# Altium schematic symbol library 保护器件.SchLib: 9 symbols
Pins are listed as number, name and electrical type; pins without a type are passive.

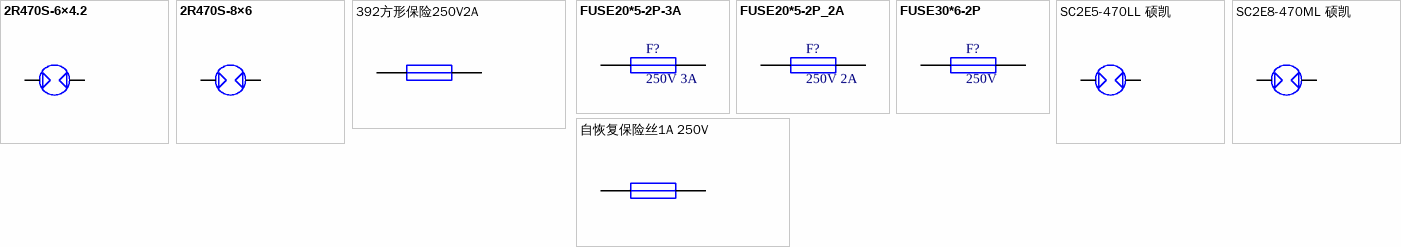
[diagram p0: symbols 2R470S-6×4.2 to 自恢复保险丝1A 250V]

## 2R470S-6×4.2
designator GDT?
气体放电管; 金蝶料号: 010104080007; 工作温度: -40℃~+90°C; 插件/贴片: 贴片; 器件状态: 启用; 厂家型号: 2R470S-6×4.2; 值: 2R470S-6×4.2; ComponentLink1Description: New link; ComponentLink1URL: *
footprint 2RXXXS-6*4.2mm (贴片气体放电管)
pins: 1, 2

## 2R470S-8×6
designator GDT?
气体放电管; 金蝶料号: 010104080008; 工作温度: -40℃~+90°C; 插件/贴片: 贴片; 器件状态: 启用; 厂家型号: 2R470S-8×6; 值: 2R470S-8×6; ComponentLink1Description: New link; ComponentLink1URL: *
footprint 2RXXXS-8×6
pins: 1, 2

## 392方形保险250V2A
designator F?, comment 250V 2A
392方形保险 250V 2A 慢断; 金蝶料号: 010119020003; 工作温度: -55℃~125℃; 插件/贴片: 插件; 器件状态: 在用; 厂家: *; 厂家型号: 250V 2A; 值: 250V 2A; ComponentLink1Description: New link; ComponentLink1URL: *
footprint 392保险丝
pins: 1, 2

## FUSE20*5-2P-3A
designator F?, comment 250V 3A
玻璃保险丝 20*5MM 250V 3A; 厂家: 瑞万; 厂家型号: 250V3A 5*20MM 慢断; 金蝶料号: 010119020027，010119060005; 插件/贴片: 插件; 器件状态: 启用; 工作温度: *; 值: 250V 3A
footprint FUSE_5X20_2P
pins: 1, 2

## FUSE20*5-2P_2A
designator F?, comment 250V 2A
玻璃保险丝 20*5MM 250V 2A; 厂家: 瑞万; 厂家型号: 250V2A 5*20MM 慢断; 金蝶料号: 010119020025，010119060005; 插件/贴片: 插件; 器件状态: 启用; 工作温度: *; 值: 250V 2A
footprint FUSE_5X20_2P
pins: 1, 2

## FUSE30*6-2P
designator F?, comment 250V
bao; 厂家: 瑞万; 厂家型号: H3-67B; 金蝶料号: 010119060006; 插件/贴片: 插件; 值: 250V 3A; 器件状态: 启用; 工作温度: *
footprint FUSE-6X30_2P
pins: 1, 2

## SC2E5-470LL 硕凯
designator GDT?, comment SC2E5-470LL
气体放电管; 厂家: 硕凯; 金蝶料号: 010104080001; 工作温度: -40℃~+90°C; 插件/贴片: 插件; 器件状态: 启用; 厂家型号: SC2E5-470LL; 值: SC2E5-470LL; ComponentLink1Description: New link; ComponentLink1URL: *
footprint SC2E5
pins: 1, 2

## SC2E8-470ML 硕凯
designator GDT?, comment SC2E8-470ML
气体放电管; 厂家: 硕凯; 金蝶料号: 010104080003; 工作温度: -40℃~+90°C; 插件/贴片: 插件; 器件状态: 启用; 厂家型号: SC2E8-470ML; 值: SC2E8-470ML; ComponentLink1Description: New link; ComponentLink1URL: *
footprint SC2E8
pins: 1, 2

## 自恢复保险丝1A 250V
designator F?, comment TRF100
1A 250V; 厂家: 瑞万; 金蝶料号: 010119020028; 插件/贴片: 插件; 器件状态: 在用; 厂家型号: TRF100; 值: 1A 250V
footprint FR60-160B (直径15.5mm，厚度3mm，脚距5.1mm)
pins: 1, 2